# EAGLE library part LM358A (library pepin)
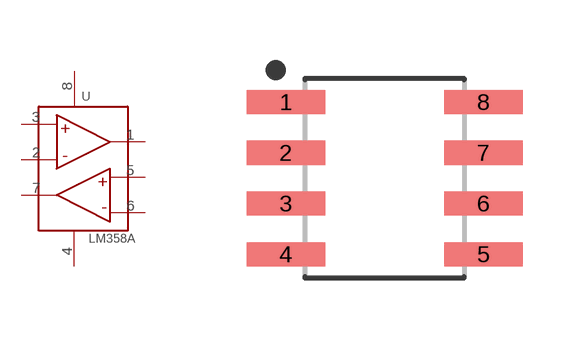
[diagram p3: symbol with the pads of SOIC127P599X175-8; footprint SOIC127P599X175-8]

Designator prefix U

## LM358ASOIC8  [SOIC127P599X175-8]
1  OUT1
2  IN1-
3  IN1+
4  V-  pwr
5  IN2+
6  IN2-
7  OUT2
8  V+  pwr

## Footprint SOIC127P599X175-8 (pad centres in mm)
8-SOIC, 1.27 mm pitch, 6.00 mm span, 4.91 X 3.90 X 1.75 mm body 8-pin SOIC package with 1.27 mm pitch, 6.00 mm span with body size 4.91 X 3.90 X 1.75 mm
smd 1.965 x 0.602: 1 -2.47,1.905; 2 -2.47,0.635; 3 -2.47,-0.635; 4 -2.47,-1.905; 5 2.47,-1.905; 6 2.47,-0.635; 7 2.47,0.635; 8 2.47,1.905